# Altium footprint library CON1_SMD_LAPJOINT_16AWG.PcbLib: 1 footprints
Each footprint in its own frame and in the unit in brackets; x right, y up, seen from the top. Pads: shape width x height; smd on the part's side, far side on the other; paste and mask are expansions set on the pad; w line width, h text height; cw(c..) or ccw(c..) is an arc to the next point about the centre after c.
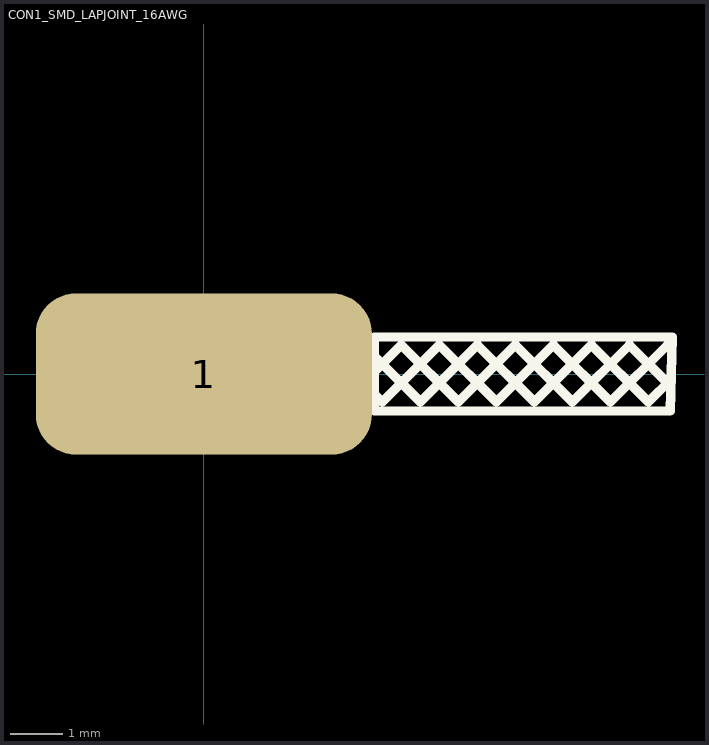
[diagram p0: the footprint, top view; thin cyan lines are the x and y axes]

## CON1_SMD_LAPJOINT_16AWG [mil]
pads (1):
  rrect50% 250x120 smd paste-999 mask-10: 1(0,0)
Top Overlay:
  lines w7: 126.78,-14.83 132.79,-20.84 ; 126.78,1.52 146.71,21.45 ; 126.78,13.45 161.08,-20.84 ; 147.07,21.45 189.36,-20.84 ; 160.98,-20.84 203.28,21.45 ; 175.35,21.45 217.65,-20.84 ; 189.27,-20.84 231.56,21.45 ; 203.63,21.45 245.93,-20.84 ; 217.55,-20.84 259.85,21.45 ; 231.92,21.45 274.22,-20.84 ; 245.84,-20.84 288.13,21.45 ; 260.2,21.45 302.5,-20.84 ; 274.12,-20.84 316.42,21.45 ; 288.49,21.45 330.78,-20.84 ; 302.41,-20.84 344.7,21.45 ; 316.77,21.45 347.55,-9.33 ; 330.69,-20.84 347.68,-3.85 ; 345.06,21.45 348.21,18.3 ; 126.78,-27.56 126.78,27.56 348.43,27.56 347.12,-27.56 126.78,-27.56 ; 132.7,-20.84 175,21.45 132.7,-20.84